# Altium footprint library IMTP Разъемы.PcbLib: 43 footprints (part 3 of 3)
Each footprint in its own frame and in the unit in brackets; x right, y up, seen from the top. Pads: shape width x height; smd on the part's side, far side on the other; paste and mask are expansions set on the pad; w line width, h text height; cw(c..) or ccw(c..) is an arc to the next point about the centre after c.
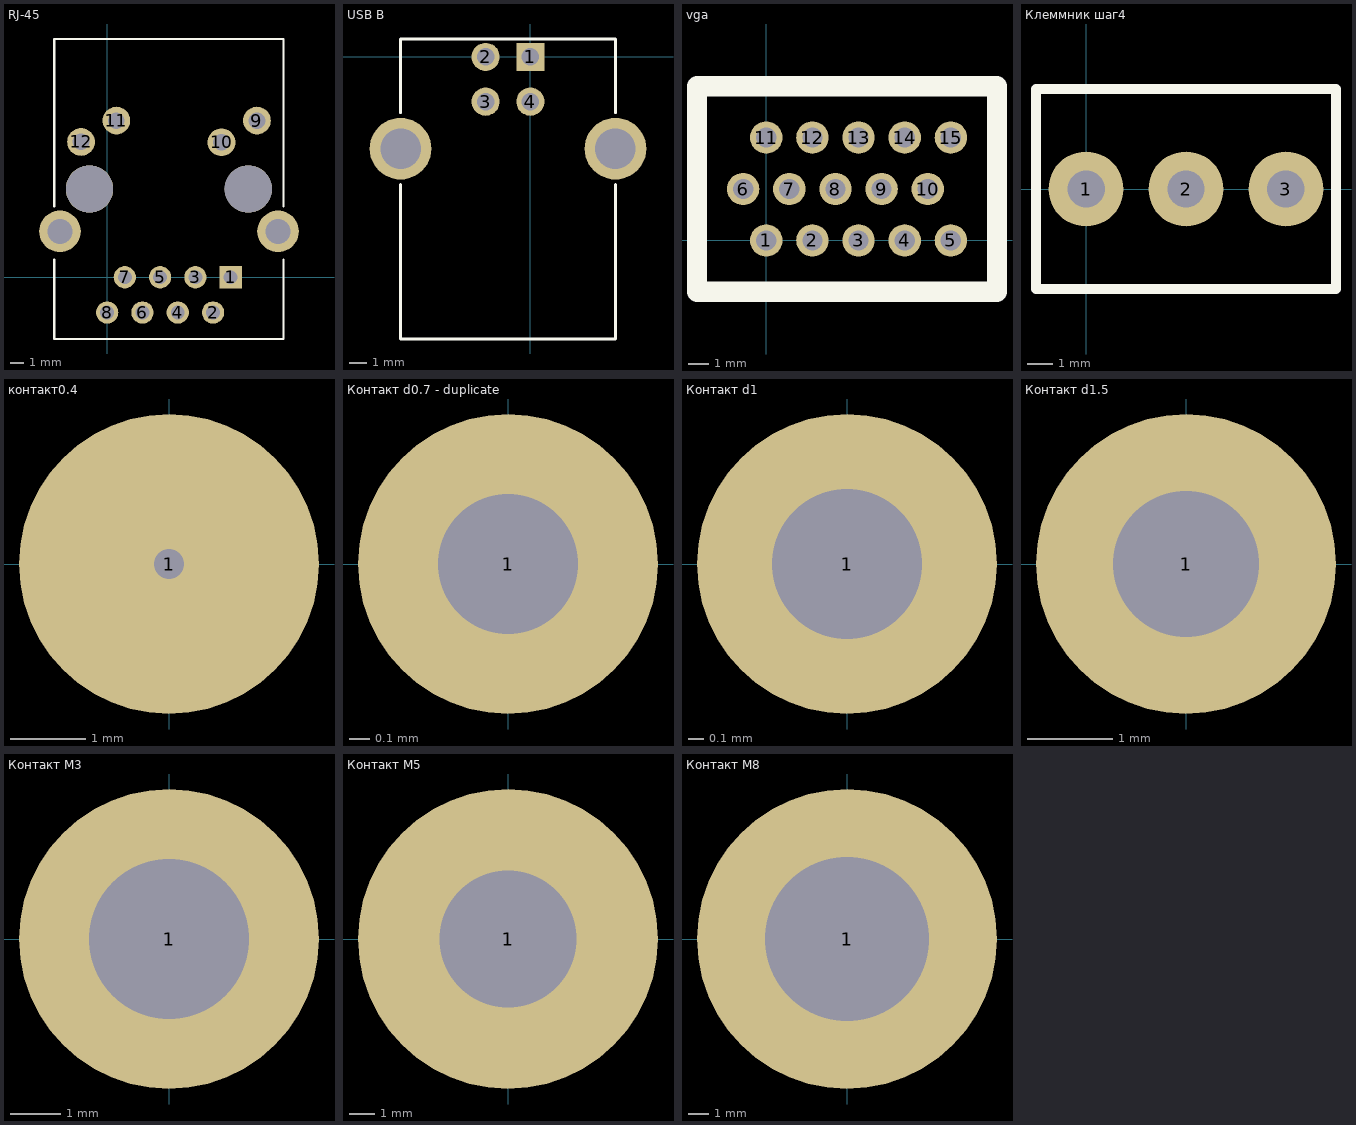
[diagram p2: the footprints below, top view; thin cyan lines are the x and y axes]

## RJ-45 [mm]
pads (16):
  rect 1.6x1.6 hole 1: 1(8.89,0)
  round 1.6 hole 1: 2(7.62,-2.54) 3(6.35,0) 4(5.08,-2.54) 5(3.81,0) 6(2.54,-2.54) 7(1.27,0) 8(0,-2.54)
  round 2 hole 1.2: 9(10.78,11.27) 10(8.23,9.71) 11(0.66,11.27) 12(-1.88,9.74)
  round 3 hole 1.8: ""(-3.4,3.3) ""(12.3,3.3)
  round 3.4 hole 3.4 unplated: ""(-1.27,6.35) ""(10.16,6.35)
Top Overlay:
  lines w0.15: -3.81,1.27 -3.81,-4.445 12.7,-4.445 12.7,1.27 ; -3.81,5.08 -3.81,17.145 12.7,17.145 12.7,6.35 12.7,5.08
3D body: height 14, standoff 0.1, extent -3.81,-4.445 12.7,17.145
3D body: height 0, standoff -2, extent -2.36,9.211 -1.364,10.209
3D body: height 0, standoff -2, extent 0.18,10.741 1.176,11.739
3D body: height 0, standoff -2, extent 7.75,9.181 8.746,10.179
3D body: height 0, standoff -2, extent 10.3,10.741 11.296,11.739
3D body: height 0, standoff -2, extent 0.79,-0.529 1.786,0.469
3D body: height 0, standoff -2, extent -0.48,-3.069 0.516,-2.071
3D body: height 0, standoff -2, extent 2.06,-3.069 3.056,-2.071
3D body: height 0, standoff -2, extent 3.33,-0.529 4.326,0.469
3D body: height 0, standoff -2, extent 4.6,-3.069 5.596,-2.071
3D body: height 0, standoff -2, extent 5.87,-0.529 6.866,0.469
3D body: height 0, standoff -2, extent 7.14,-3.069 8.136,-2.071
3D body: height 0, standoff -2, extent 8.41,-0.529 9.406,0.469
3D body: height 0, standoff -2, extent -2.904,4.708 0.283,7.902
3D body: height 0, standoff -2, extent 8.526,4.708 11.713,7.902
3D body: height 0, standoff -2, extent -4.164,2.478 -2.57,4.075
3D body: height 0, standoff -2, extent 11.536,2.478 13.13,4.075

## USB B [mm]
pads (6):
  rect 1.6x1.6 hole 1: 1(0,0)
  round 1.6 hole 1: 2(-2.54,0) 3(-2.54,-2.54) 4(0,-2.54)
  round 3.5 hole 2.3: ""(-7.366,-5.207) ""(4.826,-5.207)
Top Overlay:
  lines w0.15: -7.366,-7.239 -7.366,-16.002 4.826,-16.002 4.826,-7.239 ; -7.366,-3.175 -7.366,1.016 4.826,1.016 4.826,-3.175
3D body: height 11, standoff 0.1, extent -7.366,-16.002 4.826,1.016
3D body: height 0, standoff -2, extent -0.254,-2.794 0.254,-2.286
3D body: height 0, standoff -2, extent -2.794,-0.254 -2.286,0.254
3D body: height 0, standoff -2, extent -0.254,-0.254 0.254,0.254
3D body: height 0, standoff -2, extent -2.794,-2.794 -2.286,-2.286
3D body: height 0, standoff -2, extent 4.064,-5.969 5.588,-4.445
3D body: height 0, standoff -2, extent -8.128,-5.969 -6.604,-4.445

## vga [mm]
height 9
pads (15):
  round 1.6 hole 1: 1(0,0) 2(2.28,0) 3(4.56,0) 4(6.84,0) 5(9.12,0) 6(-1.14,2.54) 7(1.14,2.54) 8(3.42,2.54) 9(5.7,2.54) 10(7.98,2.54) 11(0,5.08) 12(2.28,5.08) 13(4.56,5.08) 14(6.84,5.08) 15(9.12,5.08)
Top Overlay:
  lines w1: -3.42,-2.54 -3.42,7.62 11.4,7.62 11.4,-2.54 -3.42,-2.54

## Клеммник шаг4 [mm]
height 7
pads (3):
  round 3 hole 1.5: 1(0,0) 2(4,0) 3(8,0)
Top Overlay:
  lines w0.4: -2,-4 10,-4 10,4 -2,4 -2,-4
3D body: height 18, standoff 0, extent -2,-4 10,4

## контакт0.4 [mm]
pads (1):
  round 4 hole 0.4: 1(0,0)

## Контакт d0.7 - duplicate [mm]
pads (1):
  round 1.5 hole 0.7: 1(0,0)

## Контакт d1 [mm]
pads (1):
  round 2 hole 1: 1(0,0)

## Контакт d1.5 [mm]
pads (1):
  round 3.5 hole 1.7: 1(0,0)

## Контакт М3 [mm]
pads (1):
  round 6 hole 3.2: 1(0,0)

## Контакт М5 [mm]
pads (1):
  round 12 hole 5.5: 1(0,0)

## Контакт М8 [mm]
pads (1):
  round 15 hole 8.2: 1(0,0)